# Altium schematic symbol library 0.schlib: 125 symbols (part 2 of 2)
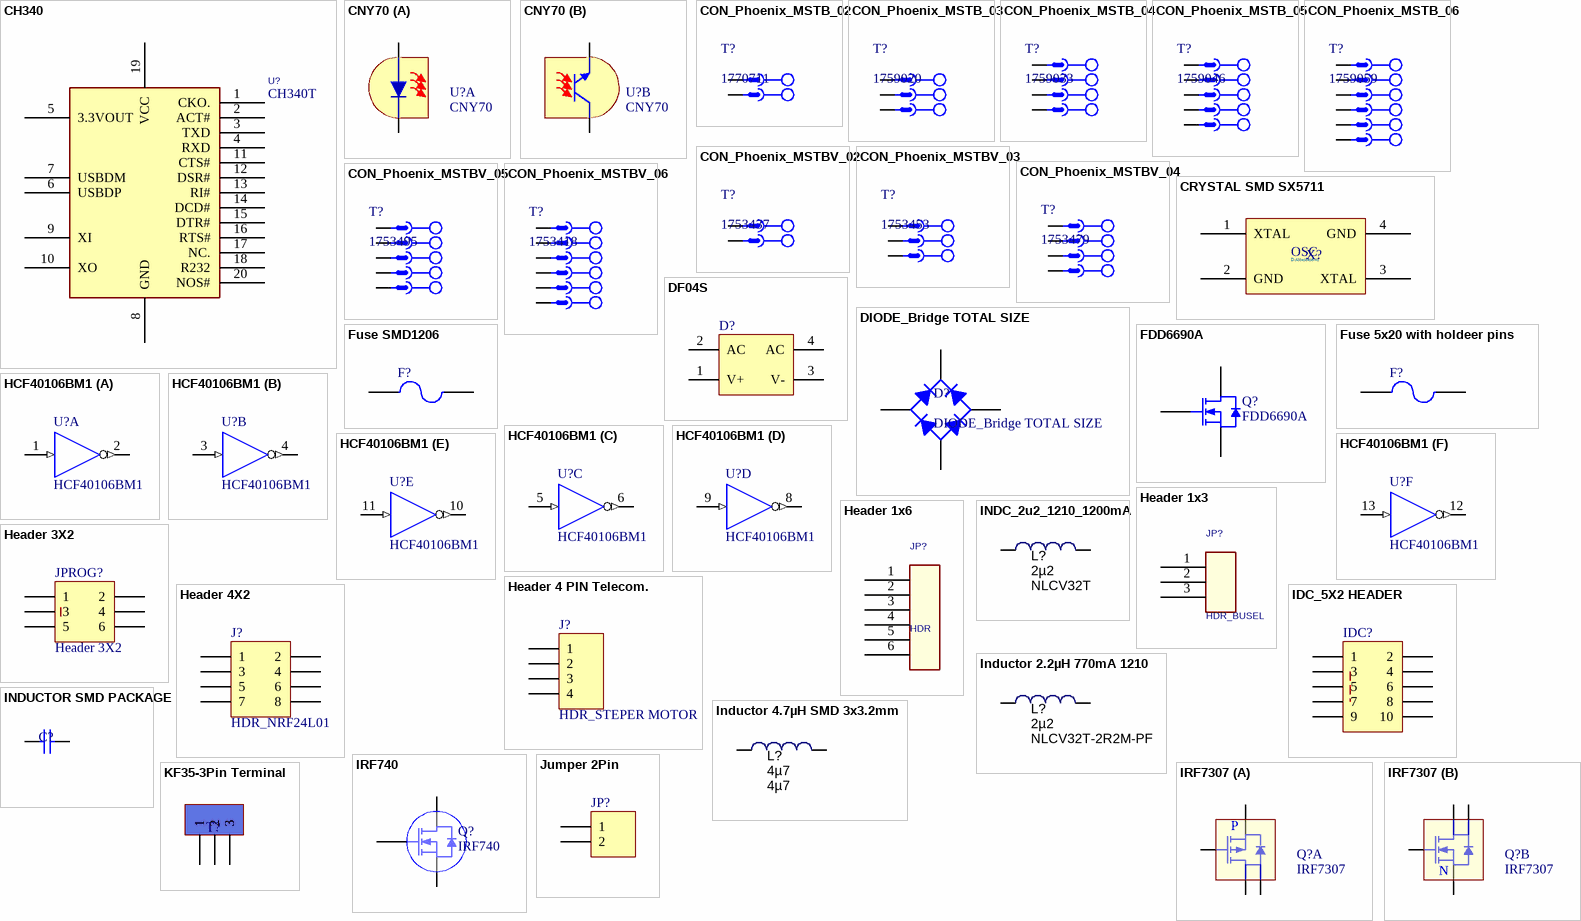
[diagram p4: symbols CH340 to KF35-3Pin Terminal]

## IDC_5X2 HEADER
designator IDC?, comment CONNECTOR_IDC_5X2  (value not drawn)
Header, 5-Pin, Dual row; Manufacturer: CHINA; designer: ABBAS BASEREH; Connector type: IDC5X2  PROGPIN; Max Current: mA; LatestRevisionDate: 1395-11-17; Publisher: ABBAS BASEREH; Mounting Technology: Through-Hole; Category: Connector; Pin Count: 10; Status: Unreleased; ComponentLink1Description: Datasheet; ComponentLink2Description: Reference; Update: 2017-2-4
signal-integrity model IDC PIN CONNECTOR (DESIGNED BY ABBAS BASEREH)
footprint IDC2.54-10PIN (Connector; IDC, Low Profile Male Header, Thru-Hole; 10 Position; Vertical; Pitch 2.54 mm; 20.32 x 9.2 x 9.45 mm (LxWxH) DESIGNER : ABBAS BASEREH)
footprint IDC2.54-10PIN WITH CABLE (Connector; IDC, Low Profile Male Header, Thru-Hole; 10 Position; Vertical; Pitch 2.54 mm; 20.32 x 9.2 x 9.45 mm (LxWxH) DESIGNER : ABBAS BASEREH)
footprint IDC2.54-10PIN - CROSS (Connector; IDC, Low Profile Male Header, Thru-Hole; 10 Position; Vertical; Pitch 2.54 mm; 20.32 x 9.2 x 9.45 mm (LxWxH) DESIGNER : ABBAS BASEREH)
pins: 1, 2, 3, 4, 5, 6, 7, 8, 9, 10

## INDC_2u2_1210_1200mA
designator L?, comment NLCV32T  value 2µ2
Inductor 2.2uH 1.2A 1210 SMD chip; Manufacturer 1: TDK Corporation; Manufacturer Part Number 1: NLCV32T-2R2M-PFR; Ratings: 1.2 Adc; Tolerance: ±20%; Type: Ferrite Core; DC Resistance (DCR): 115 mOhm; Q @ Freq: 15 @ 7.96MHz; Frequency - Self Resonant: 68MHz; Frequency - Test: 7.96MHz; SCDType: source; Package / Case: 1210 (3225 Metric); Supplier 1: Digi-Key; Supplier Part Number 1: 445-3650-1-ND; ComponentLink1URL: http://www.tdk.co.jp/tefe02/e511_nlcv_nlc.pdf; ComponentLink1Description: http://www.tdk.co.jp/tefe02/e511_nlcv_nlc.pdf; Operating Temperature: -40°C ~ 125°C
footprint INDM3225X240N (Molded Inductor, 2-Leads, Body 3.2x2.5mm, IPC Medium Density)
pins: 1, 2

## Inductor 2.2µH 770mA 1210
designator L?, comment NLCV32T-2R2M-PF  value 2µ2
2.2µH Unshielded Wirewound Inductor 770mA 169 mOhm Max 1210 (3225 Metric); Manufacturer 1: TDK Corporation; Tolerance: ±20%; Type: Ferrite Core; Q @ Freq: 15 @ 7.96MHz; Frequency - Self Resonant: 68MHz; Frequency - Test: 7.96MHz; SCDType: source; Package / Case: 1210 (3225 Metric); DC Resistance (DCR): 169 mOhm; Supplier 1: Digi-Key; Manufacturer Part Number 1: NLCV32T-2R2M-PF; ComponentLink1URL: http://www.digikey.com/products/en/inductors-coils-chokes/4; ComponentLink1Description: http://www.digikey.com/products/en/inductors-coils-chokes/4; Operating Temperature: -40°C ~ 125°C
footprint INDM3225X240N (Molded Inductor, 2-Leads, Body 3.2x2.5mm, IPC Medium Density)
pins: 1, 2

## Inductor 4.7µH SMD 3x3.2mm
designator L?, comment 4µ7
Inductor 4.7µH SMD 3x3.2mm; Tolerance: ±20%; Type: Ferrite Core; SCDType: source; Package / Case: Inductor 4.7µH SMD 3x3.2mm; Supplier 1: Digi-Key; Operating Temperature: -40°C ~ 125°C; Value: 4µ7
footprint Inductor SMD 3x3.2mm (Inductor 4.7µH SMD 3x3.2mm)
pins: 1, 2

## INDUCTOR SMD PACKAGE
designator C?
TOTAL INDUCTOR SMD PACK; Designer: Abbas Basereh; Desc.: INDUCTOR  SMD TOTAL PACKAGES; Data: 2017-3-10
footprint IND0201 (Chip Inductor, 2-Leads, Body 0/60x0/30mm, IPC Medium Density DESIGNER:ABBAS BASEREH)
footprint IND0402 (Chip Inductor, 2-Leads, Body 1/00x0/50mm, IPC Medium Density DESIGNER:ABBAS BASEREH)
footprint IND0603 (Chip Inductor, 2-Leads, Body 1/60x0/80mm, IPC Medium Density DESIGNER:ABBAS BASEREH)
footprint IND0805 (Chip Inductor, 2-Leads, Body 2/00x1/25mm, IPC Medium Density DESIGNER:ABBAS BASEREH)
footprint IND1206 (Chip Inductor, 2-Leads, Body 3/20x1/60mm, IPC Medium Density DESIGNER:ABBAS BASEREH)
footprint IND1210 (Chip Inductor, 2-Leads, Body 3/20x2/50mm, IPC Medium Density DESIGNER:ABBAS BASEREH)
footprint IND2512 (Chip Inductor, 2-Leads, Body 6/40x3/20mm, IPC Medium Density DESIGNER:ABBAS BASEREH)
footprint IND1812 (Chip Inductor, 2-Leads, Body 4/50x3/20mm, IPC Medium Density DESIGNER:ABBAS BASEREH)
signal-integrity model IND SMD (INDUCTOR SMD PACK)
pins: 1, 2

## IRF740
designator Q?
MOSFET N-CH 400V 10A TO-220AB; Published: 2017-1-12; DatasheetVersion: 2017-1-12; PackageVersion: 2017-1-12; PackageReference: TO-220AB; Publisher: Abbas Basereh; PackageDescription: MOSFET N-CH 400V 10A TO-220AB; ComponentLink1Description: http://www.digikey.com/products/en/discrete-semiconductor-products/19; ComponentLink1URL: http://www.digikey.com/product-detail/en/vishay-siliconix/IRF740PBF/IRF740PBF-ND/812037; ComponentLink2Description: Datasheet; ComponentLink2URL: http://www.roboeq.ir/files/id/1101/name/IRF740A.pdf
footprint TO-220 AB (Epoxy meets UL94, V0-Design:Abbas Basereh)
footprint TO-220 AB S (Epoxy meets UL94, V0-Design:Abbas Basereh)
footprint TO-220 AB WITH HEAT SINK (Epoxy meets UL94, V0-Design:Abbas Basereh)
footprint TO-220 AB WITH HEAT SINK ASM (-Design:Abbas Basereh)
footprint TO-220 AB with heatsink ya25 (Epoxy meets UL94, V0-Design:Abbas Basereh)
pins: 1 G, 2 D (power), 3 S (power)

## IRF7307
designator Q?
Dual N and P Channel Mosfet; Published: 2017-2-27; DatasheetVersion: 2017-2-27; PackageVersion: 2017-2-27; PackageReference: SO-8N; Publisher: Abbas Basereh; PackageDescription: SOIC, 8-Leads, Body 4/89x3/90mm, Pitch 1/27mm, IPC Medium Density designer:abbas basereh; ComponentLink1Description: Manufacturer Link; ComponentLink1URL: http://www.irf.com/; ComponentLink2Description: Dual N and P Channel Mosfet; ComponentLink2URL: http://www.roboeq.ir/files/id/2730/name/irf7307.pdf/
footprint SO-8N (SOIC, 8-Leads, Body 4/89x3/90mm, Pitch 1/27mm, IPC Medium Density designer:abbas basereh)
part A pins: 3 S2, 4 G2, 5 D2, 6 D2
part B pins: 1 S1, 2 G1, 7 D1, 8 1
part A text: P
part B text: N

## Jumper 2Pin
designator JP?
Jumper, 2-Pin; Designer: Abbas Basereh; Data: 16-12-2016; Link: *
footprint Jumper Small - 2.54 - Black (Designer Abbas Basereh)
footprint Jumper Small - 2.54 - Blue (Designer Abbas Basereh)
footprint Jumper Small - 2.54 - Green (Designer Abbas Basereh)
footprint Jumper Small - 2.54 - RED (Designer Abbas Basereh)
pins: 1, 2

## KF35-3Pin Terminal
designator T?  (value not drawn)
Terminal 3 Pin 250VAC 16A; Part. No: KF35 3P; Designer: Abbas Basereh; Link: https://www.aliexpress.com/item/
footprint KF35 3PIN (Designer Abbas Basereh)
pins: 1, 2, 3

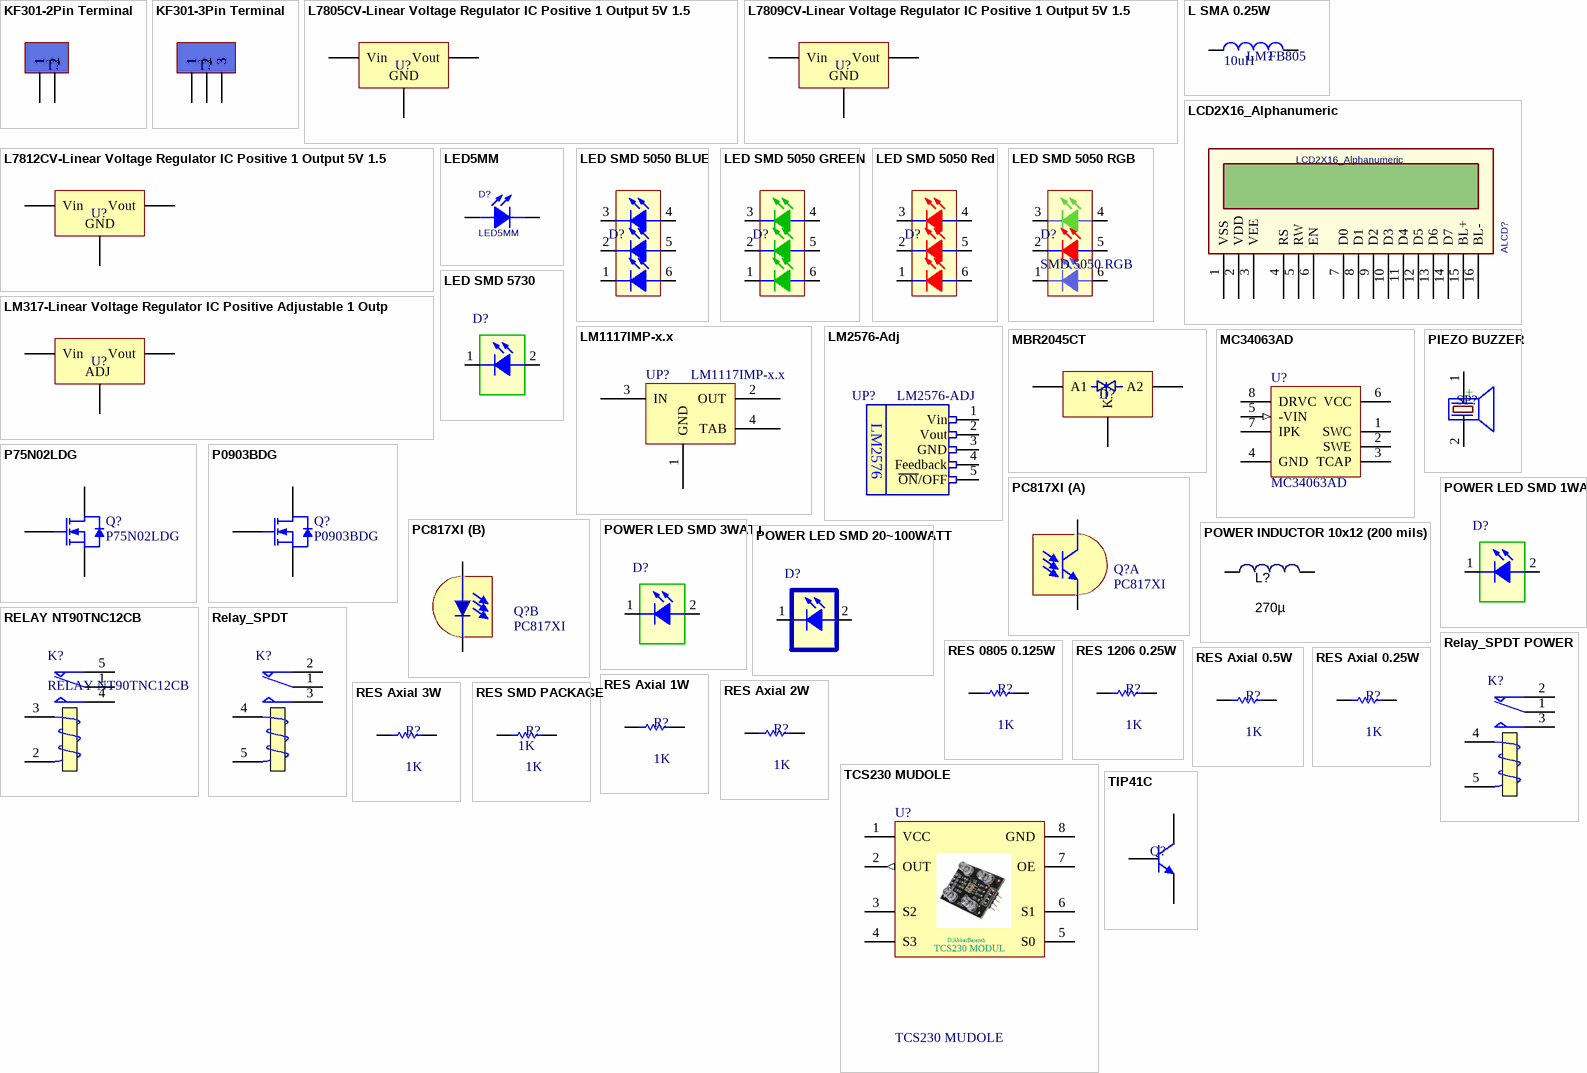
[diagram p2: symbols KF301-2Pin Terminal to TIP41C]

## KF301-2Pin Terminal
designator T?  (value not drawn)
Terminal 2 Pin 250VAC 16A; Part. No: KF301 2P; Designer: Abbas Basereh; Link: https://www.aliexpress.com/item/
footprint KF301 2PIN (Designer Abbas Basereh)
pins: 1, 2

## KF301-3Pin Terminal
designator T?  (value not drawn)
Terminal 3 Pin 250VAC 16A; Part. No: KF301 3P; Designer: Abbas Basereh; Link: https://www.aliexpress.com/item/
footprint KF301 3PIN (Designer Abbas Basereh)
pins: 1, 2, 3

## L7805CV-Linear Voltage Regulator IC Positive 1 Output 5V 1.5A TO-220AB
designator U?, comment L7805CV  (value not drawn)
Linear Voltage Regulator IC Positive FIXED; Manufacturer: STMicroelectronics; Designer: Abbas Basereh; Link: https://www.aliexpress.com/item/; Link: http://www.tme.eu/en/; Link: http://www.digikey.com/; Part. No: L7805CV
footprint TO-220 AB WITH HEAT SINK (Epoxy meets UL94, V0)
footprint TO-220 AB (Epoxy meets UL94, V0)
footprint TO-220 AB S (Epoxy meets UL94, V0)
footprint TO-220 AB WITH HEAT SINK ASM
footprint TO-220 AB with heatsink ya25 (Epoxy meets UL94, V0-Design:Abbas Basereh)
pins: 1 Vin, 2 GND, 3 Vout

## L7809CV-Linear Voltage Regulator IC Positive 1 Output 5V 1.5A TO-220AB
designator U?, comment L7809CV  (value not drawn)
Linear Voltage Regulator IC Positive FIXED; Manufacturer: STMicroelectronics; Designer: Abbas Basereh; Link: https://www.aliexpress.com/item/; Link: http://www.tme.eu/en/; Link: http://www.digikey.com/; Part. No: L7809CV
footprint TO-220 AB WITH HEAT SINK (Epoxy meets UL94, V0)
footprint TO-220 AB (Epoxy meets UL94, V0)
footprint TO-220 AB S (Epoxy meets UL94, V0)
footprint TO-220 AB WITH HEAT SINK ASM
footprint TO-220 AB with heatsink ya25 (Epoxy meets UL94, V0-Design:Abbas Basereh)
pins: 1 Vin, 2 GND, 3 Vout

## L7812CV-Linear Voltage Regulator IC Positive 1 Output 5V 1.5A TO-220AB
designator U?, comment L7812CV  (value not drawn)
Linear Voltage Regulator IC Positive FIXED; Manufacturer: STMicroelectronics; Designer: Abbas Basereh; Link: https://www.aliexpress.com/item/; Link: http://www.tme.eu/en/; Link: http://www.digikey.com/; Part. No: L7812CV
footprint TO-220 AB WITH HEAT SINK (Epoxy meets UL94, V0)
footprint TO-220 AB (Epoxy meets UL94, V0)
footprint TO-220 AB S (Epoxy meets UL94, V0)
footprint TO-220 AB WITH HEAT SINK ASM
footprint TO-220 AB with heatsink ya25 (Epoxy meets UL94, V0-Design:Abbas Basereh)
pins: 1 Vin, 2 GND, 3 Vout

## L SMA 0.25W
designator LM?, comment 10uH  value FB805
Inductor; Code_IEC: 1005; Published: 8-Jun-2000; LatestRevisionDate: 29-May-2009; LatestRevisionNote: IPC-7351 Footprint Added.; PackageReference: 0402-A; Publisher: Altium Limited; PackageDescription: Chip Inductor; Code_JEITA: 0402
footprint 0805L (,0805, 2012, 200X130)
pins: 1, 2

## LCD2X16_Alphanumeric
designator ALCD?
Designer: Abbas Basereh; Data: 16-12-2016; Link: *; Part.No: *
footprint LCD_2X16 (LCD 2x16 Alphanumberic-Designer Abbas Basereh)
footprint LCD_2X16 BLUE10mm (LCD 2x16 Alphanumberic-Designer Abbas Basereh)
footprint LCD_2X16 BLUE - 2.5mm (LCD 2x16 Alphanumberic-Designer Abbas Basereh)
footprint LCD_2X16 GREEN10mm (LCD 2x16 Alphanumberic-Designer Abbas Basereh)
footprint LCD_2X16 GREEN - 2.5mm (LCD 2x16 Alphanumberic-Designer Abbas Basereh)
pins: 1 VSS, 2 VDD, 3 VEE, 4 RS, 5 RW, 6 EN, 7 D0, 8 D1, 9 D2, 10 D3, 11 D4, 12 D5, 13 D6, 14 D7, 15 BL+, 16 BL-

## LED5MM
designator D?
LED LIGHTING; Designer: Abbas Basereh; Data: 16-12-2016; Link: *; Part.No: *
footprint LED5MM_BLUE (LED 5MM THROUGH HOLE BLUE-Designer Abbas Basereh)
footprint LED5MM_GRN (LED 5MM THROUGH HOLE GREEN-Designer Abbas Basereh)
footprint LED5MM_RED (LED 5MM THROUGH HOLE RED-Designer Abbas Basereh)
footprint LED5MM_YELLOW (LED 5MM THROUGH HOLE YELLOW-Designer Abbas Basereh)
pins: 1 ANODE, 2 CATHODE

## LED SMD 5050 BLUE
designator D?, comment probably led colors not mach to real please check the device and change the component  (value not drawn)
SMD 5050 BLUE LED; Designer: Abbas Basereh; Design Date: 1395/11/10; ComponentLink1Description: SMD 5050 BLUE; ComponentLink1URL: http://www.yuanlei-led.com; ComponentLink2Description: Reference; PackageDescription: SMD 5050 BLUE; Publisher: Abbas Basereh; Mounting Technology: Surface Mount; Pin Count: 6; Status: Unreleased; Comment_1: SMD 5050 BLUE
footprint 5050 LED package (DESIGNER ABBAS BASEREH)
pins: 1, 2, 3, 4, 5, 6

## LED SMD 5050 GREEN
designator D?, comment probably led colors not mach to real please check the device and change the component  (value not drawn)
SMD 5050 GREEN LED; Designer: Abbas Basereh; Design Date: 1395/11/10; ComponentLink1Description: SMD 5050 GREEN; ComponentLink1URL: http://www.yuanlei-led.com; ComponentLink2Description: Reference; PackageDescription: SMD 5050 GREEN; Publisher: Abbas Basereh; Mounting Technology: Surface Mount; Pin Count: 6; Status: Unreleased; Comment_1: SMD 5050 GREEN
footprint 5050 LED package (DESIGNER ABBAS BASEREH)
pins: 1, 2, 3, 4, 5, 6

## LED SMD 5050 Red
designator D?, comment probably led colors not mach to real please check the device and change the component  (value not drawn)
SMD 5050 Red LED; Designer: Abbas Basereh; Design Date: 1395/11/10; ComponentLink1Description: SMD 5050 Red; ComponentLink1URL: http://www.yuanlei-led.com; ComponentLink2Description: Reference; PackageDescription: SMD 5050 Red; Publisher: Abbas Basereh; Mounting Technology: Surface Mount; Pin Count: 6; Status: Unreleased; Comment_1: SMD 5050 Red
footprint 5050 LED package (DESIGNER ABBAS BASEREH)
pins: 1, 2, 3, 4, 5, 6

## LED SMD 5050 RGB
designator D?, comment Comment_1: SMD 5050 RGB  (hidden comment: probably led colors not mach to real please check the device and change the component)
SMD 5050 RGB LED; Designer: Abbas Basereh; Design Date: 1395/11/10; ComponentLink1Description: SMD 5050 RGB; ComponentLink1URL: http://www.yuanlei-led.com; ComponentLink2Description: Reference; PackageDescription: SMD 5050 RGB; Publisher: Abbas Basereh; Mounting Technology: Surface Mount; HelpURL: probably color of the leds not mached real please check and change; Pin Count: 6; Status: Unreleased
footprint 5050 LED package (DESIGNER ABBAS BASEREH)
pins: 1, 2, 3, 4, 5, 6

## LED SMD 5730
designator D?, comment 0.5WATT WITHE/WARM  (value not drawn)
LED SMD 0.5WATT; Designer: Abbas Basereh; Comment_1: POWER LED SMD 0.5W; Design Date: 1395/11/14; ComponentLink1Description: POWER LED SMD LIGHTING; ComponentLink1URL: http://www.epistar.com.tw/_english/10_technology/00_detail.php?TID=3; ComponentLink2Description: Reference; PackageDescription: SMD; Publisher: Abbas Basereh; Mounting Technology: Surface Mount; Pin Count: 2; Status: Unreleased; VALUE: 0.5WATT WITHE/WARM
footprint LED-5730 (LED; 2 Leads)
pins: 1, 2

## LM317-Linear Voltage Regulator IC Positive Adjustable 1 Output 1.2 V ~ 37 V 1.5A TO-220AB
designator U?, comment LM317  (value not drawn)
Linear Voltage Regulator IC Positive Adjustable; Manufacturer: STMicroelectronics; Part. No: LM317T; Designer: Abbas Basereh; Link: https://www.aliexpress.com/item/10pcs-LM317T-LM317-1-5A-Adj-Voltage-Reg-IC-TO-220/32346665410.html?spm=2114.01010208.3.1.kAAILy&ws_ab_test=searchweb0_0,searchweb201602_4_10065_10068_10084_10083_10080_10082_10081_10060_10061_10062_10056_10055_10054_10059_10099_10078_10079_427_10073_10103_10102_10096_10052_10050_10051,searchweb201603_4&btsid=df845f6f-cd6f-40ae-85f4-c652e8570ab0; Link: http://www.tme.eu/en/details/lm317t/regulated-voltage-regulators/st-microelectronics/; Link: http://www.digikey.com/product-detail/en/stmicroelectronics/LM317T/497-1575-5-ND/591677
footprint TO-220 AB WITH HEAT SINK (Epoxy meets UL94, V0)
footprint TO-220 AB (Epoxy meets UL94, V0)
footprint TO-220 AB S (Epoxy meets UL94, V0)
footprint TO-220 AB WITH HEAT SINK ASM
footprint TO-220 AB with heatsink ya25 (Epoxy meets UL94, V0-Design:Abbas Basereh)
pins: 1 ADJ, 2 Vout, 3 Vin

## LM1117IMP-x.x
designator UP?
x.x Volt, 800mA Low-Dropout Linear Regulator, 4-pin SOT-223; Designer: Abbas Basereh; Data: 16-12-2016; VALUE: LM1117IMP-x.x
footprint SOT223_4 (SOT223, 4-Leads, Body 6.5x3.5mm, Pitch 2.30mm-Designer Abbas Basereh)
pins: 1 GND (power), 2 OUT (power), 3 IN (power), 4 TAB (power)

## LM2576-Adj
designator UP?, comment LM2576-ADJ
1.2-50V, 3A variable output step-down switching voltage regulator; Designer: Abbas Basereh; Data: 16-12-2016; Link: *; Part.No: *; VALUE: LM2576-ADJ
footprint TO-220_5 with heatsink (TO-220 STRAIGHT, T05A pitch: 1.7mm-Designer Abbas Basereh)
footprint TO-220_5 with heatsink HS sot32 (TO-220 STRAIGHT, T05A pitch: 1.7mm-Designer Abbas Basereh)
footprint TO-220_5 (TO-220 STRAIGHT, T05A pitch: 1.7mm-Designer Abbas Basereh)
footprint TO-220_5 - with heatsink ya25 (TO-220 STRAIGHT, T05A pitch: 1.7mm-Designer Abbas Basereh)
pins: 1 Vin, 2 Vout, 3 GND, 4 Feedback, 5 ~{ON}/OFF
text: LM2576

## MBR2045CT
designator D?, comment MBR2045  (value not drawn)
Power Schottky; Manufacturer: VISHAY; Part. No: MBR2045CT-E3/45; Designer: Abbas Basereh; Link: https://www.aliexpress.com/item/100PCS-MBR2045CT-MBR2045-MBR2045C-TO220/32576607386.html?spm=2114.01010208.3.1.vWJGYC&ws_ab_test=searchweb0_0,searchweb201602_4_10065_10068_10084_10083_10080_10082_10081_10060_10061_10062_10056_10055_10054_10059_10099_10078_10079_427_10073_10103_10102_10096_10052_10050_10051,searchweb201603_4&btsid=59d3c580-949c-4e8a-9059-0fcae782ffc8; Link: http://www.tme.eu/en/details/mbr2045ct-e3_45/tht-universal-diodes/vishay/; Link: http://www.digikey.com/product-detail/en/diodes-incorporated/MBR2045CTF-G1/MBR2045CTF-G1DI-ND/5453096
footprint TO-220 AB (Epoxy meets UL94, V0)
footprint TO-220 AB S (Epoxy meets UL94, V0)
footprint TO-220 AB WITH HEAT SINK (Epoxy meets UL94, V0)
footprint TO-220 AB WITH HEAT SINK ASM
footprint TO-220 AB with heatsink ya25 (Epoxy meets UL94, V0-Design:Abbas Basereh)
pins: 1 A1 (power), 2 K (power), 3 A2 (power)

## MC34063AD
designator U?
DC-to-DC Converter Control Circuit; Published: 2017-3-1; LatestRevisionDate: 2017-3-1; LatestRevisionNote: IPC-7351 Footprint Added.; DatasheetVersion: 2017; PackageReference: 751-02; Publisher: ABBAS BASEREH; PackageDescription: 8-Pin Small Outline Integrated Circuit 1.27 mm Pitch; Code_JEDEC: MS-012-AA; Code_IPC: SOIC127P600-8; ComponentLink1Description: Manufacturer Link; ComponentLink1URL: http://www.onsemi.com/site/products/taxonomy/0,4438,503,00.html; ComponentLink2Description: Datasheet; ComponentLink2URL: http://www.onsemi.com/pub/Collateral/MC34063A-D.PDF
footprint 751-02_N (SOIC, 8-Leads, Body 4.9x3.9mm, Pitch 1.27mm, IPC Medium Density)
footprint 751-02_L (SOIC, 8-Leads, Body 4.9x3.9mm, Pitch 1.27mm, IPC High Density)
footprint 751-02_M (SOIC, 8-Leads, Body 4.9x3.9mm, Pitch 1.27mm, IPC Low Density)
pins: 1 SWC (oc), 2 SWE (oe), 3 TCAP, 4 GND (power), 5 -VIN (in), 6 VCC (power), 7 IPK, 8 DRVC (oc)

## P75N02LDG
designator Q?
N-channel MOSFET; Note: Pin 2 is trimmed (and not drawn) and is electrically connected to Drain; Published: 2017-1-12; DatasheetVersion: 2017-1-12; PackageVersion: 2017-1-12; PackageReference: D-PAK TO-252; Publisher: Abbas Basereh; PackageDescription: D-PAK TO-252; ComponentLink1Description: Manufacturer Link; ComponentLink2Description: Datasheet; ComponentLink2URL: http://www.roboeq.ir/files/id/2793/name/p75n02ldg.pdf/
footprint TO252-3L (D-PAK, 3-Pads, Body 6.2x6.7mm (max), IPC High Density)
footprint TO252-3M (D-PAK, 3-Pads, Body 6.2x6.7mm (max), IPC Low Density)
footprint TO252-3N (D-PAK, 3-Pads, Body 6.2x6.7mm (max), IPC Medium Density)
pins: 1 G, 3 S, 4 D

## P0903BDG
designator Q?
N-channel MOSFET; Note: Pin 2 is trimmed (and not drawn) and is electrically connected to Drain; Published: 2017-1-12; DatasheetVersion: 2017-1-12; PackageVersion: 2017-1-12; PackageReference: D-PAK TO-252; Publisher: Abbas Basereh; PackageDescription: D-PAK TO-252; ComponentLink1Description: Manufacturer Link; ComponentLink2Description: Datasheet; ComponentLink2URL: http://www.roboeq.ir/files/id/2909/name/P0903BDG.pdf/
footprint TO252-3L (D-PAK, 3-Pads, Body 6.2x6.7mm (max), IPC High Density)
footprint TO252-3M (D-PAK, 3-Pads, Body 6.2x6.7mm (max), IPC Low Density)
footprint TO252-3N (D-PAK, 3-Pads, Body 6.2x6.7mm (max), IPC Medium Density)
pins: 1 G, 3 S, 4 D

## PC817XI
designator Q?
DIP 4pin General Purpose  Photocoupler; Published: 2017-2-27; DatasheetVersion: 2017-2-27; PackageVersion: 2017-2-27; PackageReference: SMT Gullwing Lead-Form; Publisher: Abbas Basereh; PackageDescription: SOP, 4-Leads, Body 4/65x6/75mm, Pitch 2/54mm, IPC Medium Density designer:abbas basereh; ComponentLink1Description: Manufacturer Link; ComponentLink1URL: http://www.roboeq.ir/files/id/233/name/PC817.pdf/; ComponentLink2Description: DIP 4pin General Purpose
footprint SMT Gullwing Lead-Form (SOP, 4-Leads, Body 4/65x6/75mm, Pitch 2/54mm, IPC Medium Density designer:abbas basereh)
part A pins: 3 E, 4 C
part B pins: 1 A, 2 K

## PIEZO BUZZER
designator SP?
PIEZO BUZZER ACTIVE; Designer: Abbas Basereh; Comment_1: SPEAKER AND BEEP; Design Date: 1395/11/14; ComponentLink2Description: Reference; PackageDescription: THD; Publisher: Abbas Basereh; Mounting Technology: THD; Pin Count: 2; Status: Unreleased
footprint BUZZER 7.62mm DC (BUZZER 12mm DIA , 7.62mm pitch DESIGNER ABBAS BASEREH)
pins: 1 +, 2 -

## POWER INDUCTOR 10x12 (200 mils)
designator L?, comment 270µ
POWER INDUCTOR 10x12 (200 mils); Tolerance: ±20%; Type: Ferrite Core; SCDType: source; Package / Case: POWER INDUCTOR 10x12 (200 mils); Supplier 1: Digi-Key; Operating Temperature: -40°C ~ 125°C; Value: 270µ; PUBLISHER: ABBAS BASEREH  2017-3-1
footprint Inductor 10x12 (200 mils) (POWER INDUCTOR 10x12 (200 mils) DESIGNER ABBAS BASEREH)
pins: 1, 2

## POWER LED SMD 1WATT
designator D?, comment 1WATT WITHE/WARM  (value not drawn)
POWER LED SMD 1WATT; Designer: Abbas Basereh; Design Date: 1395/11/14; ComponentLink1Description: POWER LED SMD LIGHTING; ComponentLink1URL: http://www.epistar.com.tw/_english/10_technology/00_detail.php?TID=3; ComponentLink2Description: Reference; PackageDescription: SMD; Publisher: Abbas Basereh; Mounting Technology: Surface Mount; Pin Count: 2; Status: Unreleased; Comment_1: POWER LED SMD 1W; VALUE: 1WATT WITHE/WARM
footprint POWER LED 1WATT (DESIGNER : ABBAS BASEREH)
footprint POWER LED 1WATT-WITH LENS (DESIGNER : ABBAS BASEREH)
pins: 1, 2

## POWER LED SMD 3WATT
designator D?, comment 3WATT WITHE/WARM  (value not drawn)
POWER LED SMD 3WATT; Designer: Abbas Basereh; Design Date: 1395/11/14; ComponentLink1Description: POWER LED SMD LIGHTING; ComponentLink1URL: http://www.epistar.com.tw/_english/10_technology/00_detail.php?TID=3; ComponentLink2Description: Reference; PackageDescription: SMD; Publisher: Abbas Basereh; Mounting Technology: Surface Mount; Pin Count: 2; Status: Unreleased; Comment_1: POWER LED SMD 3W; VALUE: 3WATT WITHE/WARM
footprint POWER LED 3WATT (DESIGNER : ABBAS BASEREH)
footprint POWER LED 3WATT-WITH LENS (DESIGNER : ABBAS BASEREH)
pins: 1, 2

## POWER LED SMD 20~100WATT
designator D?, comment 20~100WATT WITHE/WARM  (value not drawn)
POWER LED SMD; Designer: Abbas Basereh; Design Date: 1395/11/14; ComponentLink1Description: POWER LED SMD LIGHTING; ComponentLink1URL: http://www.epistar.com.tw/_english/10_technology/00_detail.php?TID=3; ComponentLink2Description: Reference; PackageDescription: THD/SMD; Publisher: Abbas Basereh; Mounting Technology: Surface Mount; Pin Count: 2; Status: Unreleased; Comment_1: POWER LED SMD; VALUE: 20~100WATT WITHE/WARM
footprint POWER LED 20~100W (DESIGNER ABBAS BASEREH)
pins: 1, 2

## RELAY NT90TNC12CB
designator K?
Relay_SPDT POWER NEEDLE; Designer: Abbas Basereh; PackageDescription: 31.7x26.7x28; PackageReference: RELAY NT90TNC12CB; Mounting Technology: Through-Hole; Value: RELAY NT90TNC12CB; ComponentLink1Description: Datasheet; Pin Count: 0; Update Date: 2017-3-4; Category: NT90TNC12CB
footprint RELAY NT90TNC12CB (31.7x26.7x28 DESIGNER:ABBAS BASEREH)
pins: 1 COM, 2 T2, 3 T1, 4 NO, 5 NC

## Relay_SPDT
designator K?
Single-Pole Dual-Throw Relay; Designer: Abbas Basereh; Mounting Technology: Through-Hole; ComponentLink1Description: Datasheet; Pin Count: 0; Update Date: 2017-3-1
footprint Relay 18.85x15.35x15.70
pins: 1 COM, 2 NC, 3 NO, 4 T1, 5 T2

## Relay_SPDT POWER
designator K?
Relay_SPDT POWER NEEDLE; Designer: Abbas Basereh; Mounting Technology: Through-Hole; ComponentLink1Description: Datasheet; Pin Count: 0; Update Date: 2017-3-1
footprint Relay Needle 31.7x26.7x28 (DESIGNER ABBAS BASEREH)
pins: 1 COM, 2 NC, 3 NO, 4 T1, 5 T2

## RES 0805 0.125W
designator R?, comment 1K
RES 0805; Designer: Abbas Basereh; Desc.: RES SMD 0805; Data: 16-12-2016
footprint RESC3413X04N (Chip Resistor, 2-Leads, Body 3/40x1/30mm, IPC Medium Density)
pins: 1, 2

## RES 1206 0.25W
designator R?, comment 1K
RES 1206; Designer: Abbas Basereh; Desc.: RES SMD 1206; Data: 16-12-2016
footprint RESC4817X04N (Chip Resistor, 2-Leads, Body 4/80x1/70mm, IPC Medium Density)
pins: 1, 2

## RES Axial 0.5W
designator R?, comment 1K
RES Axial 0.5W; Designer: Abbas Basereh; Desc.: RES Axial 0.5W; Data: 4-1-2017
footprint Axial 0_5W 5_0mm (Designer Abbas Basereh)
pins: 1, 2

## RES Axial 0.25W
designator R?, comment 1K
RES Axial 0.25W; Designer: Abbas Basereh; Desc.: RES Axial 0.25W; Data: 4-1-2017
footprint Axial 0_25w_2_54mm (Designer Abbas Basereh)
footprint Axial 0_25 W, 0_4 IN LEAD PITCH (Designer Abbas Basereh)
pins: 1, 2

## RES Axial 1W
designator R?, comment 1K
RES Axial 1W; Designer: Abbas Basereh; Desc.: RES Axial 1W; Data: 4-1-2017
footprint Axial 1W  7_0mm (Designer Abbas Basereh)
pins: 1, 2

## RES Axial 2W
designator R?, comment 1K
RES Axial 2W; Designer: Abbas Basereh; Desc.: RES Axial 2W; Data: 4-1-2017
footprint Axial 2W 8_0mm (Designer Abbas Basereh)
pins: 1, 2

## RES Axial 3W
designator R?, comment 1K
RES Axial 3W; Designer: Abbas Basereh; Desc.: RES Axial 3W; Data: 4-1-2017
footprint Axial 3W 9_0mm (Designer Abbas Basereh)
pins: 1, 2

## RES SMD PACKAGE
designator R?, comment 1K
TOTAL SMD RESISTOR PACK; Designer: Abbas Basereh; Desc.: RES SMD PAKAGES; Data: 2017-3-10; VALUE: 1K
footprint RES0201 (Chip Resistor, 2-Leads, Body 0/60x0/30mm, IPC Medium Density DESIGNER:ABBAS BASEREH)
footprint RES0402 (Chip Resistor, 2-Leads, Body 1/00x0/50mm, IPC Medium Density DESIGNER:ABBAS BASEREH)
footprint RES0603 (Chip Resistor, 2-Leads, Body 1/60x0/80mm, IPC Medium Density DESIGNER:ABBAS BASEREH)
footprint RES0805 (Chip Resistor, 2-Leads, Body 2/00x1/25mm, IPC Medium Density DESIGNER:ABBAS BASEREH)
footprint RES1206 (Chip Resistor, 2-Leads, Body 3/20x1/60mm, IPC Medium Density DESIGNER:ABBAS BASEREH)
footprint RES1210 (Chip Resistor, 2-Leads, Body 3/20x2/50mm, IPC Medium Density DESIGNER:ABBAS BASEREH)
footprint RES1812 (Chip Resistor, 2-Leads, Body 4/50x3/20mm, IPC Medium Density DESIGNER:ABBAS BASEREH)
footprint RES2010 (Chip Resistor, 2-Leads, Body 5/00x2/50mm, IPC Medium Density DESIGNER:ABBAS BASEREH)
footprint RES2512 (Chip Resistor, 2-Leads, Body 6/40x3/20mm, IPC Medium Density DESIGNER:ABBAS BASEREH)
signal-integrity model RES SMD (SMD PACK)
pins: 1, 2

## TCS230 MUDOLE
designator U?
COLOR LIGHT-TO-FREQUENCY CONVERTER; Published: 2017-2-23; DatasheetVersion: http://www.roboeq.ir/files/id/2049/name/tcs230.pdf/; PackageVersion: Low-profile surface mount package; Publisher: Abbas Basereh; PackageDescription: COLOR LIGHT-TO-FREQUENCY CONVERTER; Supplier 1: http://shop.aftabrayaneh.com/Color_Sensor_Tcs230__AFTAB.html?search=TCS; Supplier Part Number 1: TCS230 MUDOLE; Supplier 2: http://shop.aftabrayaneh.com/Color_Sensor_Tcs230__AFTAB.html?search=TCS; ComponentLink1Description: Manufacturer Link; ComponentLink1URL: http://www.roboeq.ir/files/id/2049/name/tcs230.pdf/
footprint TCS230 MODULE (DESIGNER ABBAS BASEREH)
pins: 1 VCC (power), 2 OUT (out), 3 S2, 4 S3, 5 S0, 6 S1, 7 OE, 8 GND (power)
text: D:AbbasBasereh; TCS230 MODUL

## TIP41C
designator Q?  (value not drawn)
NPN  power transistor; Manufacturer: STMicroelectronics; Designer: Abbas Basereh; DESC.: Complementary power transistors; Link: https://www.aliexpress.com/item/; Link: http://www.tme.eu/en/; Link: http://www.digikey.com/; Part. No: TIP41C
footprint TO-220 AB WITH HEAT SINK (Epoxy meets UL94, V0)
footprint TO-220 AB (Epoxy meets UL94, V0)
footprint TO-220 AB S (Epoxy meets UL94, V0)
footprint TO-220 AB WITH HEAT SINK ASM
footprint TO-220 AB with heatsink ya25 (Epoxy meets UL94, V0-Design:Abbas Basereh)
pins: 1 B, 2 C, 3 E

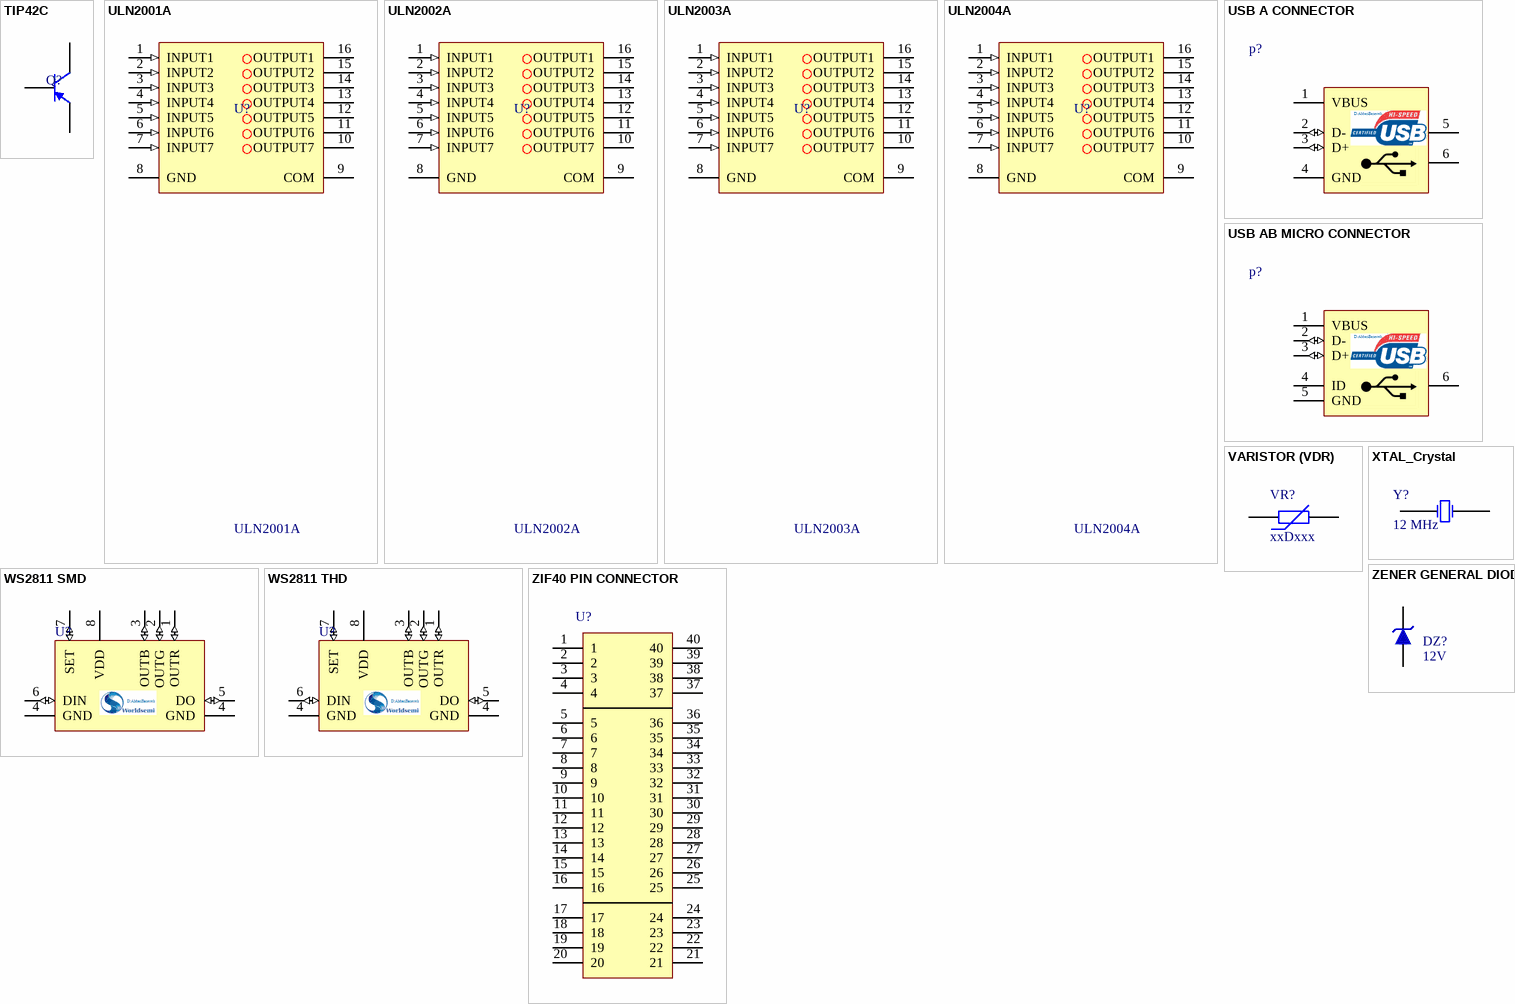
[diagram p3: symbols TIP42C to ZIF40 PIN CONNECTOR]

## TIP42C
designator Q?  (value not drawn)
PNP  power transistor; Manufacturer: STMicroelectronics; Designer: Abbas Basereh; DESC.: Complementary power transistors; Link: https://www.aliexpress.com/item/; Link: http://www.tme.eu/en/; Link: http://www.digikey.com/; Part. No: TIP42C
footprint TO-220 AB WITH HEAT SINK (Epoxy meets UL94, V0)
footprint TO-220 AB (Epoxy meets UL94, V0)
footprint TO-220 AB S (Epoxy meets UL94, V0)
footprint TO-220 AB WITH HEAT SINK ASM
footprint TO-220 AB with heatsink ya25 (Epoxy meets UL94, V0-Design:Abbas Basereh)
pins: 1 B, 2 C, 3 E

## ULN2001A
designator U?
SEVEN DARLINGTON ARRAYS; Published: 2017-3-2; DatasheetVersion: STMicroelectronics GROUP OF COMPANIES; PackageVersion: 2017-3-2; PackageReference: SO16_N; Publisher: Abbas Basereh; PackageDescription: 16-Pin Small Outline Integrated Circuit 1.27 mm Pitch, IPC High Density; Supplier 1: Digi-Key; Supplier Part Number 1: ULN2001A; Supplier 2: Mouser; Supplier Part Number 2: ULN2001A; ComponentLink1Description: Datasheet; ComponentLink2URL: http://www.st.com
footprint SO16_L (16-Pin Small Outline Integrated Circuit 1.27 mm Pitch, IPC High Density - DESIGNER ABBAS BASEREH)
footprint SO16_M (16-Pin Small Outline Integrated Circuit 1.27 mm Pitch, IPC Low Density - DESIGNER ABBAS BASEREH)
footprint SO16_N (16-Pin Small Outline Integrated Circuit 1.27 mm Pitch, IPC Medium Density - DESIGNER ABBAS BASEREH)
pins: 1 INPUT1 (in), 2 INPUT2 (in), 3 INPUT3 (in), 4 INPUT4 (in), 5 INPUT5 (in), 6 INPUT6 (in), 7 INPUT7 (in), 8 GND (power), 9 COM (power), 10 OUTPUT7, 11 OUTPUT6, 12 OUTPUT5, 13 OUTPUT4, 14 OUTPUT3, 15 OUTPUT2, 16 OUTPUT1

## ULN2002A
designator U?
SEVEN DARLINGTON ARRAYS; Published: 2017-3-2; DatasheetVersion: STMicroelectronics GROUP OF COMPANIES; PackageVersion: 2017-3-2; PackageReference: SO16_N; Publisher: Abbas Basereh; PackageDescription: 16-Pin Small Outline Integrated Circuit 1.27 mm Pitch, IPC High Density; Supplier 1: Digi-Key; Supplier Part Number 1: ULN2002A; Supplier 2: Mouser; Supplier Part Number 2: ULN2002A; ComponentLink1Description: Datasheet; ComponentLink2URL: http://www.st.com
footprint SO16_L (16-Pin Small Outline Integrated Circuit 1.27 mm Pitch, IPC High Density - DESIGNER ABBAS BASEREH)
footprint SO16_M (16-Pin Small Outline Integrated Circuit 1.27 mm Pitch, IPC Low Density - DESIGNER ABBAS BASEREH)
footprint SO16_N (16-Pin Small Outline Integrated Circuit 1.27 mm Pitch, IPC Medium Density - DESIGNER ABBAS BASEREH)
pins: 1 INPUT1 (in), 2 INPUT2 (in), 3 INPUT3 (in), 4 INPUT4 (in), 5 INPUT5 (in), 6 INPUT6 (in), 7 INPUT7 (in), 8 GND (power), 9 COM (power), 10 OUTPUT7, 11 OUTPUT6, 12 OUTPUT5, 13 OUTPUT4, 14 OUTPUT3, 15 OUTPUT2, 16 OUTPUT1

## ULN2003A
designator U?
SEVEN DARLINGTON ARRAYS; Published: 2017-3-2; DatasheetVersion: STMicroelectronics GROUP OF COMPANIES; PackageVersion: 2017-3-2; PackageReference: SO16_N; Publisher: Abbas Basereh; PackageDescription: 16-Pin Small Outline Integrated Circuit 1.27 mm Pitch, IPC High Density; Supplier 1: Digi-Key; Supplier Part Number 1: ULN2003A; Supplier 2: Mouser; Supplier Part Number 2: ULN2003A; ComponentLink1Description: Datasheet; ComponentLink2URL: http://www.st.com
footprint SO16_L (16-Pin Small Outline Integrated Circuit 1.27 mm Pitch, IPC High Density - DESIGNER ABBAS BASEREH)
footprint SO16_M (16-Pin Small Outline Integrated Circuit 1.27 mm Pitch, IPC Low Density - DESIGNER ABBAS BASEREH)
footprint SO16_N (16-Pin Small Outline Integrated Circuit 1.27 mm Pitch, IPC Medium Density - DESIGNER ABBAS BASEREH)
pins: 1 INPUT1 (in), 2 INPUT2 (in), 3 INPUT3 (in), 4 INPUT4 (in), 5 INPUT5 (in), 6 INPUT6 (in), 7 INPUT7 (in), 8 GND (power), 9 COM (power), 10 OUTPUT7, 11 OUTPUT6, 12 OUTPUT5, 13 OUTPUT4, 14 OUTPUT3, 15 OUTPUT2, 16 OUTPUT1

## ULN2004A
designator U?
SEVEN DARLINGTON ARRAYS; Published: 2017-3-2; DatasheetVersion: STMicroelectronics GROUP OF COMPANIES; PackageVersion: 2017-3-2; PackageReference: SO16_N; Publisher: Abbas Basereh; PackageDescription: 16-Pin Small Outline Integrated Circuit 1.27 mm Pitch, IPC High Density; Supplier 1: Digi-Key; Supplier Part Number 1: ULN2004A; Supplier 2: Mouser; Supplier Part Number 2: ULN2004A; ComponentLink1Description: Datasheet; ComponentLink2URL: http://www.st.com
footprint SO16_L (16-Pin Small Outline Integrated Circuit 1.27 mm Pitch, IPC High Density - DESIGNER ABBAS BASEREH)
footprint SO16_M (16-Pin Small Outline Integrated Circuit 1.27 mm Pitch, IPC Low Density - DESIGNER ABBAS BASEREH)
footprint SO16_N (16-Pin Small Outline Integrated Circuit 1.27 mm Pitch, IPC Medium Density - DESIGNER ABBAS BASEREH)
pins: 1 INPUT1 (in), 2 INPUT2 (in), 3 INPUT3 (in), 4 INPUT4 (in), 5 INPUT5 (in), 6 INPUT6 (in), 7 INPUT7 (in), 8 GND (power), 9 COM (power), 10 OUTPUT7, 11 OUTPUT6, 12 OUTPUT5, 13 OUTPUT4, 14 OUTPUT3, 15 OUTPUT2, 16 OUTPUT1

## USB A CONNECTOR
designator p?, comment USB Connector  (value not drawn)
USB Connector-A Type; Designer: ABBAS BASEREH; Max Current: 600mA; Mounting Technology: Surface Mount\Through-Hole; Category: Connector; Pin Count: 4-6; Publisher: ABBAS BASEREH; Status: Unreleased; ComponentLink1Description: Datasheet; ComponentLink2Description: Reference; Update: 1395-11-17
signal-integrity model Connector (USB B Type Connector)
footprint USB2.5-2H4C (Connector; USB1.1, Type A, Thru-Hole; 4 Position; Right Angle)
footprint USB2.5-2V4A (Connector; USB1.1, Type A, Thru-Hole; 4 Position; Vertical)
footprint USB/SM2.5-4H4 (Connector; USB1.1, Type A, SM; 4 Position; Right Angle)
footprint USB/SM2.5-4H4A (Connector; USB1.1, Type A, SM; 4 Position; Right Angle)
footprint USB2.0-4H4 (Connector; USB1.1, Type A, Thru-Hole; 4 Position; Right Angle)
footprint USB A TYPE Right Angle (Connector; USB1.1, Type A, SM; 4 Position; Right Angle DESIGNER ABBAS BASEREH)
pins: 1 VBUS (power), 2 D- (io), 3 D+ (io), 4 GND (power), 5 MH (power), 6 MH (power)
3 alternate drawings of the same symbol
text: D:AbbasBasereh

## USB AB MICRO CONNECTOR
designator p?, comment USB Connector  (value not drawn)
USB MICRO-B Type Connector; Designer: ABBAS BASEREH; Max Current: 1600mA; Mounting Technology: Surface Mount\Through-Hole; Category: Connector; Pin Count: 5-7; Publisher: ABBAS BASEREH; Status: Unreleased; ComponentLink1Description: Datasheet; ComponentLink2Description: Reference; Update: 1395-11-17
footprint USB_AB_BM_SHS (USB Micro AB - Standard (Bottom mount), Shell SMT DESIGNER ABBAS BASEREH)
footprint USB_AB_receptacle (USB Micro AB - receptacle  DESIGNER ABBAS BASEREH)
pins: 1 VBUS (power), 2 D- (io), 3 D+ (io), 4 ID (power), 5 GND (power), 6 MH (power)
3 alternate drawings of the same symbol
text: D:AbbasBasereh

## VARISTOR (VDR)
designator VR?, comment xxDxxx
VARISTORS; Manufacturer: china-canada-philipina; DESCRIPTION: Metal Oxide Varistor Total Size; Designer: Abbas Basereh; Models: MOV-VDR-COV; Data: 2017-1-5; Link: digikey.com; VALUE: xxDxxx; PUBLISHER: ABBAS BASEREH
footprint 05D XXX (MOV-05DxxxK Metal Oxide Varistors (MOVs) are 5 mm-Design:Abbas Basereh)
footprint 07D XXX (MOV-07DxxxK Metal Oxide Varistors (MOVs) are 7 mm-Design:Abbas Basereh)
footprint 10D XXX (MOV-10DxxxK Metal Oxide Varistors (MOVs) are 10 mm-Design:Abbas Basereh)
footprint 14D XXX (MOV-14DxxxK Metal Oxide Varistors (MOVs) are 14 mm-Design:Abbas Basereh)
footprint 20D XXX (MOV-20DxxxK Metal Oxide Varistors (MOVs) are 20 mm-Design:Abbas Basereh)
footprint 23D XXX (MOV-23DxxxK Metal Oxide Varistors (MOVs) are 23 mm-Design:Abbas Basereh)
pins: 1, 2

## WS2811 SMD
designator U?
LED Driver IC 3 Output Linear 18.5mA Module 10PK; ComponentAvailability: Not recommended for new design.; Published: 2017-1-30; DatasheetVersion: 30-1-2017; PackageVersion: 30-1-2017; PackageReference: 8S2; Publisher: Abbas Basereh; PackageDescription: SOP-8; Supplier 1: Digi-Key; Supplier Part Number 1: WS2811; Supplier 2: Farnell; Supplier Part Number 2: 1378; Supplier 3: Mouser; Supplier Part Number 3: 1528-1537-ND; ComponentLink1Description: LED Driver IC 3 Output Linear 18.5mA Module 10PK; ComponentLink1URL: http://www.world-semi.com; ComponentLink2Description: WS2811; ComponentLink3Description: WS2811; ComponentLink4Description: http://www.world-semi.com
footprint 8S2_N (SOP, 8-Leads, Body 5.3x5.3mm, Pitch 1.27mm, IPC Medium Density)
footprint 8S2_L (SOP, 8-Leads, Body 5.3x5.3mm, Pitch 1.27mm, IPC High Density)
footprint 8S2_M (SOP, 8-Leads, Body 5.3x5.3mm, Pitch 1.27mm, IPC Low Density)
pins: 1 OUTR (io), 2 OUTG (io), 3 OUTB (io), 4 GND (power), 4 GND (power), 5 DO (io), 6 DIN (io), 7 SET (io), 8 VDD (power)
text: D:AbbasBasereh

## WS2811 THD
designator U?
LED Driver IC 3 Output Linear 18.5mA Module 10PK; ComponentAvailability: Not recommended for new design.; Published: 2017-1-30; DatasheetVersion: 30-1-2017; PackageVersion: 30-1-2017; PackageReference: 8P3; Publisher: Abbas Basereh; PackageDescription: DIP-8; Supplier 1: Digi-Key; Supplier Part Number 1: WS2811; Supplier 2: Farnell; Supplier 3: Mouser; ComponentLink1Description: LED Driver IC 3 Output Linear 18.5mA Module 10PK; ComponentLink1URL: http://www.world-semi.com; ComponentLink2Description: WS2811; ComponentLink3Description: WS2811; ComponentLink4Description: http://www.world-semi.com
footprint 8P3 (DIP, 8-Leads, Row Spacing 7.62mm, Pitch 2.54mm, Body 9.59x6.61mm)
pins: 1 OUTR (io), 2 OUTG (io), 3 OUTB (io), 4 GND (power), 4 GND (power), 5 DO (io), 6 DIN (io), 7 SET (io), 8 VDD (power)
text: D:AbbasBasereh

## XTAL_Crystal
designator Y?, comment 12 MHz
XTAL Crystal; Designer: ABBAS BASEREH; Design Date: 2017-1-3; ComponentLink1Description: Datasheet; ComponentLink2Description: Reference; Mounting Technology: Surface Mount\Through-Hole; Value: 12 MHz; Status: Unreleased
footprint CRYSTAL Small (DESIGNER ABBAS BASEREH)
footprint Crystal SMD (DESIGNER ABBAS BASEREH)
pins: 1 OSC1, 2 OSC2

## ZENER GENERAL DIODE
designator DZ?, comment 12V
DIODE ZENER GENERAL; Published: 2017-1-12; PackageVersion: 2017-1-12; PackageReference: DO 35; Publisher: Abbas Basereh; PackageDescription: DIODE GEN ZENER; ComponentLink1Description: Manufacturer Link; ComponentLink2Description: Datasheet; VALUE: 12V
footprint DO 35 (Diode)
footprint SOD323 (SOD-323; 2 Leads; Body 1.8 x 1.35 mm, (LxW))
footprint SOD80, LL-34 (Diode, MiniMELF)
footprint SOD123 (SOD-123; 2 Leads; Body 2.7 x 1.6 mm, (LxW))
pins: 1, 2

## ZIF40 PIN CONNECTOR
designator U?  (value not drawn)
40pin Zip/Zif Socket; Manufacturer: CHINA; designer: ABBAS BASEREH; Max Current: mA; Mounting Technology: Through-Hole; Category: Connector; Pin Count: 40 PIN; Publisher: ABBAS BASEREH; Status: Unreleased; ComponentLink1Description: Datasheet; ComponentLink2Description: Reference; Update: 1395-11-17
footprint DIP40 - Zip Socket
signal-integrity model Connector (40 Pin Connector)
pins: 1, 2, 3, 4, 5, 6, 7, 8, 9, 10, 11, 12, 13, 14, 15, 16, 17, 18, 19, 20, 21, 22, 23, 24, 25, 26, 27, 28, 29, 30, 31, 32, 33, 34, 35, 36, 37, 38, 39, 40